# Altium integrated library Res-SMD_V2.IntLib: 2369 symbols (part 4 of 18)
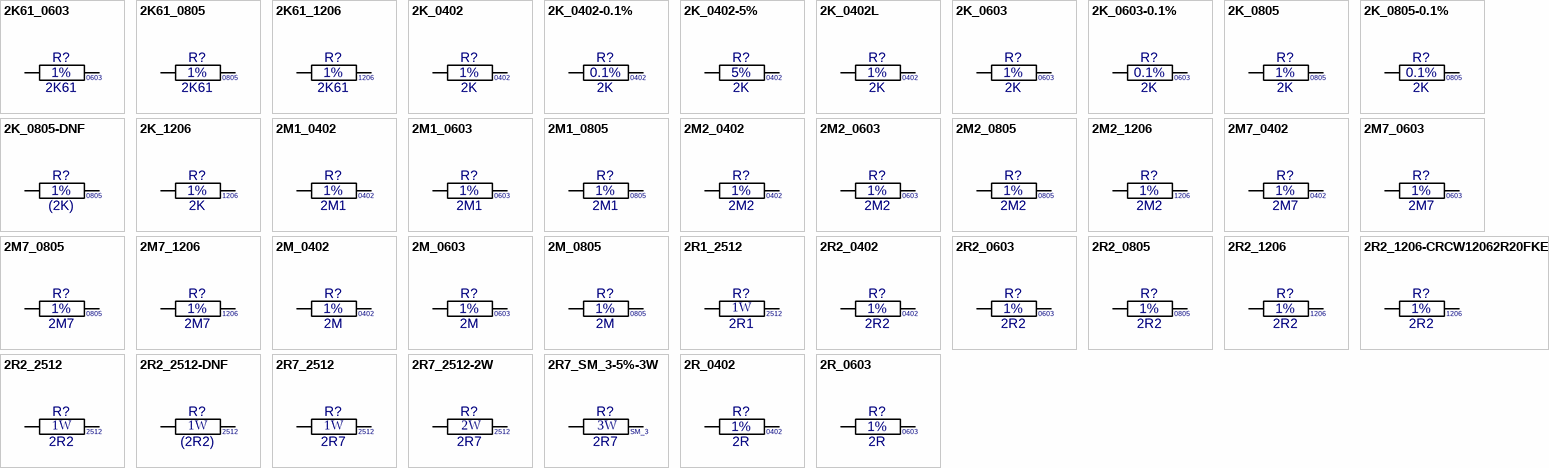
[diagram p62: symbols 2K61_0603 to 2R_0603]

## 2K61_0805
designator R?, comment value 2K61  Tol: 1%  Text1: 0805  (hidden comment: 2K61_R0805_1%)
Resistor Chip SMD; Manufacturer: Various; Part Number: 2K61 0805 1%; Watt: 125mW; Package: RESC0805X65N; EDM-PN: *; Text2: *; Reutech PN: *; SAAB PN: *; DCE Part No: *
footprint RESC0805X65N (Chip Resistor, 0805, 2-Leads, Body 2.0x1.3mm, IPC Medium Density)
pins: 1, 2

## 2K61_1206
designator R?, comment value 2K61  Tol: 1%  Text1: 1206  (hidden comment: 2K61_R1206_1%)
Resistor Chip SMD; Manufacturer: Various; Part Number: 2K61 1206 1%; Watt: 250mW; Package: RESC1206X71N; EDM-PN: *; Text2: *; Reutech PN: *; SAAB PN: *; DCE Part No: *
footprint RESC1206X71N (Chip Resistor, 1206, 2-Leads, Body 3.2x1.6mm, IPC Medium Density)
pins: 1, 2

## 2K_0402
designator R?, comment value 2K  Tol: 1%  Text1: 0402  (hidden comment: 2K_R0402_1%)
Resistor Chip SMD; Manufacturer: Various; Part Number: 2K 0402 1%; Watt: 63mW; EDM-PN: RES1457; Package: RESC0402X40N; Text2: *; Reutech PN: *; SAAB PN: *; DCE Part No: *
footprint RESC0402X40N (Chip Resistor, 0402, 2-Leads, Body 1.1x0.5mm, IPC Medium Density)
pins: 1, 2

## 2K_0402-0.1%
designator R?, comment value 2K  Tol: 0.1%  Text1: 0402  (hidden comment: 2K_R0402_0.1%)
Resistor Chip SMD; Manufacturer: Various; Part Number: 2K 0402 0.1%; Watt: 63mW; Package: RESC0402X40N; EDM-PN: *; Text2: *; Reutech PN: *; SAAB PN: *; DCE Part No: *
footprint RESC0402X40N (Chip Resistor, 0402, 2-Leads, Body 1.1x0.5mm, IPC Medium Density)
pins: 1, 2

## 2K_0402-5%
designator R?, comment value 2K  Tol: 5%  Text1: 0402  (hidden comment: 2K_R0402_5%)
Resistor Chip SMD; Manufacturer: Various; Part Number: 2K 0402 5%; Watt: 63mW; Package: RESC0402X40N; EDM-PN: *; Text2: *; Reutech PN: *; SAAB PN: *; DCE Part No: *
footprint RESC0402X40N (Chip Resistor, 0402, 2-Leads, Body 1.1x0.5mm, IPC Medium Density)
pins: 1, 2

## 2K_0402L
designator R?, comment value 2K  Tol: 1%  Text1: 0402  (hidden comment: 2K_R0402_1%)
Resistor Chip SMD; Manufacturer: Various; Part Number: 2K 0402 1%; Watt: 63mW; EDM-PN: RES1457; Package: RESC0402X40L; Text2: *; Reutech PN: *; SAAB PN: *; DCE Part No: *
footprint RESC0402X40L (Chip Resistor, 0402, 2-Leads, Body 1.1x0.5mm, IPC High Density)
pins: 1, 2

## 2K_0603
designator R?, comment value 2K  Tol: 1%  Text1: 0603  (hidden comment: 2K_R0603_1%)
Resistor Chip SMD; Manufacturer: Various; Part Number: 2K 0603 1%; Watt: 100mW; EDM-PN: RES680; Package: RESC0603X60N; Text2: *; Reutech PN: 5905-93-2001; SAAB PN: *; DCE Part No: *
footprint RESC0603X60N (Chip Resistor, 0603, 2-Leads, Body 1.6x0.8mm, IPC Medium Density)
pins: 1, 2

## 2K_0603-0.1%
designator R?, comment value 2K  Tol: 0.1%  Text1: 0603  (hidden comment: 2K_R0603_0.1%)
Resistor Chip SMD; Manufacturer: Various; Part Number: 2K 0603 0.1%; Watt: 100mW; Reutech PN: 5905-93-; Package: RESC0603X60N; EDM-PN: *; Text2: *; SAAB PN: *; DCE Part No: *
footprint RESC0603X60N (Chip Resistor, 0603, 2-Leads, Body 1.6x0.8mm, IPC Medium Density)
pins: 1, 2

## 2K_0805
designator R?, comment value 2K  Tol: 1%  Text1: 0805  (hidden comment: 2K_R0805_1%)
Resistor Chip SMD; Manufacturer: Various; Part Number: 2K 0805 1%; Watt: 125mW; EDM-PN: RES197; Package: RESC0805X65N; Text2: *; Reutech PN: *; SAAB PN: *; DCE Part No: *
footprint RESC0805X65N (Chip Resistor, 0805, 2-Leads, Body 2.0x1.3mm, IPC Medium Density)
pins: 1, 2

## 2K_0805-0.1%
designator R?, comment value 2K  Tol: 0.1%  Text1: 0805  (hidden comment: 2K_R0805_0.1%)
Resistor Chip SMD; Manufacturer: Various; Part Number: 2K 0805 0.1%; Watt: 125mW; Package: RESC0805X65N; EDM-PN: *; Text2: *; Reutech PN: *; SAAB PN: *; DCE Part No: *
footprint RESC0805X65N (Chip Resistor, 0805, 2-Leads, Body 2.0x1.3mm, IPC Medium Density)
pins: 1, 2

## 2K_0805-DNF
designator R?, comment value (2K)  Tol: 1%  Text1: 0805  (hidden comment: 2K_R0805_1%-DNF)
Resistor Chip SMD - Do not Fit; Manufacturer: Various; Part Number: DNF - 2K 0805 1%; Watt: 125mW; EDM-PN: RES197; Package: RESC0805X65N; Text2: *; Reutech PN: *; SAAB PN: *; DCE Part No: *
footprint RESC0805X65N (Chip Resistor, 0805, 2-Leads, Body 2.0x1.3mm, IPC Medium Density)
pins: 1, 2

## 2K_1206
designator R?, comment value 2K  Tol: 1%  Text1: 1206  (hidden comment: 2K_R1206_1%)
Resistor Chip SMD; Manufacturer: Various; Part Number: 2K 1206 1%; Watt: 250mW; Package: RESC1206X71N; EDM-PN: *; Text2: *; Reutech PN: 5905-97-2001; SAAB PN: *; DCE Part No: *
footprint RESC1206X71N (Chip Resistor, 1206, 2-Leads, Body 3.2x1.6mm, IPC Medium Density)
pins: 1, 2

## 2M1_0402
designator R?, comment value 2M1  Tol: 1%  Text1: 0402  (hidden comment: 2M1_R0402_1%)
Resistor Chip SMD; Manufacturer: Various; Part Number: 2M1 0402 1%; Watt: 63mW; Package: RESC0402X40N; EDM-PN: *; Text2: *; Reutech PN: *; SAAB PN: *; DCE Part No: *
footprint RESC0402X40N (Chip Resistor, 0402, 2-Leads, Body 1.1x0.5mm, IPC Medium Density)
pins: 1, 2

## 2M1_0603
designator R?, comment value 2M1  Tol: 1%  Text1: 0603  (hidden comment: 2M1_R0603_1%)
Resistor Chip SMD; Manufacturer: Various; Part Number: 2M1 0603 1%; Watt: 100mW; Package: RESC0603X60N; EDM-PN: *; Text2: *; Reutech PN: *; SAAB PN: *; DCE Part No: *
footprint RESC0603X60N (Chip Resistor, 0603, 2-Leads, Body 1.6x0.8mm, IPC Medium Density)
pins: 1, 2

## 2M1_0805
designator R?, comment value 2M1  Tol: 1%  Text1: 0805  (hidden comment: 2M1_R0805_1%)
Resistor Chip SMD; Manufacturer: Various; Part Number: 2M1 0805 1%; Watt: 125mW; Package: RESC0805X65N; EDM-PN: *; Text2: *; Reutech PN: *; SAAB PN: *; DCE Part No: *
footprint RESC0805X65N (Chip Resistor, 0805, 2-Leads, Body 2.0x1.3mm, IPC Medium Density)
pins: 1, 2

## 2M2_0402
designator R?, comment value 2M2  Tol: 1%  Text1: 0402  (hidden comment: 2M2_R0402_1%)
Resistor Chip SMD; Manufacturer: Various; Part Number: 2M2 0402 1%; Watt: 63mW; EDM-PN: RES1587; Package: RESC0402X40N; Text2: *; Reutech PN: *; SAAB PN: *; DCE Part No: *
footprint RESC0402X40N (Chip Resistor, 0402, 2-Leads, Body 1.1x0.5mm, IPC Medium Density)
pins: 1, 2

## 2M2_0603
designator R?, comment value 2M2  Tol: 1%  Text1: 0603  (hidden comment: 2M2_R0603_1%)
Resistor Chip SMD; Manufacturer: Various; Part Number: 2M2 0603 1%; Watt: 100mW; Package: RESC0603X60N; EDM-PN: *; Text2: *; Reutech PN: *; SAAB PN: *; DCE Part No: *
footprint RESC0603X60N (Chip Resistor, 0603, 2-Leads, Body 1.6x0.8mm, IPC Medium Density)
pins: 1, 2

## 2M2_0805
designator R?, comment value 2M2  Tol: 1%  Text1: 0805  (hidden comment: 2M2_R0805_1%)
Resistor Chip SMD; Manufacturer: Various; Part Number: 2M2 0805 1%; Watt: 125mW; Package: RESC0805X65N; EDM-PN: *; Text2: *; Reutech PN: *; SAAB PN: *; DCE Part No: *
footprint RESC0805X65N (Chip Resistor, 0805, 2-Leads, Body 2.0x1.3mm, IPC Medium Density)
pins: 1, 2

## 2M2_1206
designator R?, comment value 2M2  Tol: 1%  Text1: 1206  (hidden comment: 2M2_R1206_1%)
Resistor Chip SMD; Manufacturer: Various; Part Number: 2M2 1206 1%; Watt: 250mW; Package: RESC1206X71N; EDM-PN: *; Text2: *; Reutech PN: *; SAAB PN: *; DCE Part No: *
footprint RESC1206X71N (Chip Resistor, 1206, 2-Leads, Body 3.2x1.6mm, IPC Medium Density)
pins: 1, 2

## 2M7_0402
designator R?, comment value 2M7  Tol: 1%  Text1: 0402  (hidden comment: 2M7_R0402_1%)
Resistor Chip SMD; Manufacturer: Various; Part Number: 2M7 0402 1%; Watt: 63mW; EDM-PN: RES1576; Package: RESC0402X40N; Text2: *; Reutech PN: *; SAAB PN: *; DCE Part No: *
footprint RESC0402X40N (Chip Resistor, 0402, 2-Leads, Body 1.1x0.5mm, IPC Medium Density)
pins: 1, 2

## 2M7_0603
designator R?, comment value 2M7  Tol: 1%  Text1: 0603  (hidden comment: 2M7_R0603_1%)
Resistor Chip SMD; Manufacturer: Various; Part Number: 2M7 0603 1%; Watt: 100mW; Package: RESC0603X60N; EDM-PN: *; Text2: *; Reutech PN: *; SAAB PN: *; DCE Part No: *
footprint RESC0603X60N (Chip Resistor, 0603, 2-Leads, Body 1.6x0.8mm, IPC Medium Density)
pins: 1, 2

## 2M7_0805
designator R?, comment value 2M7  Tol: 1%  Text1: 0805  (hidden comment: 2M7_R0805_1%)
Resistor Chip SMD; Manufacturer: Various; Part Number: 2M7 0805 1%; Watt: 125mW; EDM-PN: RES984; Package: RESC0805X65N; Text2: *; Reutech PN: *; SAAB PN: *; DCE Part No: *
footprint RESC0805X65N (Chip Resistor, 0805, 2-Leads, Body 2.0x1.3mm, IPC Medium Density)
pins: 1, 2

## 2M7_1206
designator R?, comment value 2M7  Tol: 1%  Text1: 1206  (hidden comment: 2M7_R1206_1%)
Resistor Chip SMD; Manufacturer: Various; Part Number: 2M7 1206 1%; Watt: 250mW; Package: RESC1206X71N; EDM-PN: *; Text2: *; Reutech PN: *; SAAB PN: *; DCE Part No: *
footprint RESC1206X71N (Chip Resistor, 1206, 2-Leads, Body 3.2x1.6mm, IPC Medium Density)
pins: 1, 2

## 2M_0402
designator R?, comment value 2M  Tol: 1%  Text1: 0402  (hidden comment: 2M_R0402_1%)
Resistor Chip SMD; Manufacturer: Various; Part Number: 2M 0402 1%; Watt: 63mW; Package: RESC0402X40N; EDM-PN: *; Text2: *; Reutech PN: *; SAAB PN: *; DCE Part No: *
footprint RESC0402X40N (Chip Resistor, 0402, 2-Leads, Body 1.1x0.5mm, IPC Medium Density)
pins: 1, 2

## 2M_0603
designator R?, comment value 2M  Tol: 1%  Text1: 0603  (hidden comment: 2M_R0603_1%)
Resistor Chip SMD; Manufacturer: Various; Part Number: 2M 0603 1%; Watt: 100mW; Package: RESC0603X60N; EDM-PN: *; Text2: *; Reutech PN: *; SAAB PN: *; DCE Part No: *
footprint RESC0603X60N (Chip Resistor, 0603, 2-Leads, Body 1.6x0.8mm, IPC Medium Density)
pins: 1, 2

## 2M_0805
designator R?, comment value 2M  Tol: 1%  Text1: 0805  (hidden comment: 2M_R0805_1%)
Resistor Chip SMD; Manufacturer: Various; Part Number: 2M 0805 1%; Watt: 125mW; Package: RESC0805X65N; EDM-PN: *; Text2: *; Reutech PN: *; SAAB PN: *; DCE Part No: *
footprint RESC0805X65N (Chip Resistor, 0805, 2-Leads, Body 2.0x1.3mm, IPC Medium Density)
pins: 1, 2

## 2R1_2512
designator R?, comment value 2R1  Watt: 1W  Text1: 2512  (hidden comment: 2R1_R2512_1%)
Resistor Chip SMD; Manufacturer: Various; Part Number: 2R1 2512 1%; Tol: 1%; Package: RESC2512X71N; EDM-PN: *; Text2: *; Reutech PN: *; SAAB PN: *; DCE Part No: *
footprint RESC2512X71N (Chip Resistor, 2512, 2-Leads, Body 6.3x3.2mm, IPC Medium Density)
pins: 1, 2

## 2R2_0402
designator R?, comment value 2R2  Tol: 1%  Text1: 0402  (hidden comment: 2R2_R0402_1%)
Resistor Chip SMD; Manufacturer: Various; Part Number: 2R2 0402 1%; Watt: 63mW; Package: RESC0402X40N; EDM-PN: *; Text2: *; Reutech PN: *; SAAB PN: *; DCE Part No: *
footprint RESC0402X40N (Chip Resistor, 0402, 2-Leads, Body 1.1x0.5mm, IPC Medium Density)
pins: 1, 2

## 2R2_0603
designator R?, comment value 2R2  Tol: 1%  Text1: 0603  (hidden comment: 2R2_R0603_1%)
Resistor Chip SMD; Manufacturer: Various; Part Number: 2R2 0603 1%; Watt: 100mW; EDM-PN: RES509; Package: RESC0603X60N; Text2: *; Reutech PN: *; SAAB PN: *; DCE Part No: *
footprint RESC0603X60N (Chip Resistor, 0603, 2-Leads, Body 1.6x0.8mm, IPC Medium Density)
pins: 1, 2

## 2R2_0805
designator R?, comment value 2R2  Tol: 1%  Text1: 0805  (hidden comment: 2R2_R0805_1%)
Resistor Chip SMD; Manufacturer: Various; Part Number: 2R2 0805 1%; Watt: 125mW; Package: RESC0805X65N; EDM-PN: *; Text2: *; Reutech PN: *; SAAB PN: *; DCE Part No: *
footprint RESC0805X65N (Chip Resistor, 0805, 2-Leads, Body 2.0x1.3mm, IPC Medium Density)
pins: 1, 2

## 2R2_1206
designator R?, comment value 2R2  Tol: 1%  Text1: 1206  (hidden comment: 2R2_R1206_1%)
Resistor Chip SMD; Manufacturer: Various; Part Number: 2R2 1206 1%; Watt: 250mW; Package: RESC1206X71N; EDM-PN: *; Text2: *; Reutech PN: *; SAAB PN: *; DCE Part No: *
footprint RESC1206X71N (Chip Resistor, 1206, 2-Leads, Body 3.2x1.6mm, IPC Medium Density)
pins: 1, 2

## 2R2_1206-CRCW12062R20FKEA
designator R?, comment value 2R2  Tol: 1%  Text1: 1206  (hidden comment: CRCW12062R20FKEA)
Resistor Chip SMD; Manufacturer: Vishay; Watt: 250mW; Part Number: CRCW12062R20FKEA; Package: RESC1206X71N; EDM-PN: *; Text2: *; Reutech PN: *; SAAB PN: *; DCE Part No: *
footprint RESC1206X71N (Chip Resistor, 1206, 2-Leads, Body 3.2x1.6mm, IPC Medium Density)
pins: 1, 2

## 2R2_2512
designator R?, comment value 2R2  Watt: 1W  Text1: 2512  (hidden comment: 2R2_R2512_1%)
Resistor Chip SMD; Manufacturer: Various; Part Number: 2R2 2512 1%; Tol: 1%; Package: RESC2512X71N; EDM-PN: *; Text2: *; Reutech PN: *; SAAB PN: *; DCE Part No: *
footprint RESC2512X71N (Chip Resistor, 2512, 2-Leads, Body 6.3x3.2mm, IPC Medium Density)
pins: 1, 2

## 2R2_2512-DNF
designator R?, comment value (2R2)  Watt: 1W  Text1: 2512  (hidden comment: 2R2_R2512_1%)
Resistor Chip SMD - Do not Fit; Manufacturer: Various; Part Number: DNF - 2R2 2512 1%; Tol: 1%; Package: RESC2512X71N; EDM-PN: *; Text2: *; Reutech PN: *; SAAB PN: *; DCE Part No: *
footprint RESC2512X71N (Chip Resistor, 2512, 2-Leads, Body 6.3x3.2mm, IPC Medium Density)
pins: 1, 2

## 2R7_2512
designator R?, comment value 2R7  Watt: 1W  Text1: 2512  (hidden comment: 2R7_R2512_1%)
Resistor Chip SMD; Manufacturer: Various; Part Number: 2R7 2512 1%; Tol: 1%; Reutech PN: 5905-CR-0049; Package: RESC2512X71N; EDM-PN: *; Text2: *; SAAB PN: *; DCE Part No: *
footprint RESC2512X71N (Chip Resistor, 2512, 2-Leads, Body 6.3x3.2mm, IPC Medium Density)
pins: 1, 2

## 2R7_2512-2W
designator R?, comment value 2R7  Watt: 2W  Text1: 2512  (hidden comment: 2R7_R2512_1%-2W)
Resistor Chip SMD Thick Film; Manufacturer: Various; Part Number: 2R7 2512 1% 2Watt; Tol: 1%; Package: RESC2512X71N; EDM-PN: *; Text2: *; Reutech PN: *; SAAB PN: *; DCE Part No: *
footprint RESC2512X71N (Chip Resistor, 2512, 2-Leads, Body 6.3x3.2mm, IPC Medium Density)
pins: 1, 2

## 2R7_SM_3-5%-3W
designator R?, comment value 2R7  Watt: 3W  Text1: SM_3  (hidden comment: 2R7_SM_3_5%-3W)
Resistor Moulded Power Wirewound; Manufacturer: TE Connectivity; Part Number: SMW32R7JT; EDM-PN: RES1402; Tol: 5%; Package: RES-SM_3; Text2: *; Reutech PN: *; SAAB PN: *; DCE Part No: *
footprint RES-SM_3 (RES-SM_3 10.5x5.5mm)
pins: 1, 2

## 2R_0402
designator R?, comment value 2R  Tol: 1%  Text1: 0402  (hidden comment: 2R_R0402_1%)
Resistor Chip SMD; Manufacturer: Various; Part Number: 2R 0402 1%; Watt: 63mW; Package: RESC0402X40N; EDM-PN: *; Text2: *; Reutech PN: *; SAAB PN: *; DCE Part No: *
footprint RESC0402X40N (Chip Resistor, 0402, 2-Leads, Body 1.1x0.5mm, IPC Medium Density)
pins: 1, 2

## 2R_0603
designator R?, comment value 2R  Tol: 1%  Text1: 0603  (hidden comment: 2R_R0603_1%)
Resistor Chip SMD; Manufacturer: Various; Part Number: 2R 0603 1%; Watt: 100mW; Package: RESC0603X60N; EDM-PN: *; Text2: *; Reutech PN: *; SAAB PN: *; DCE Part No: *
footprint RESC0603X60N (Chip Resistor, 0603, 2-Leads, Body 1.6x0.8mm, IPC Medium Density)
pins: 1, 2

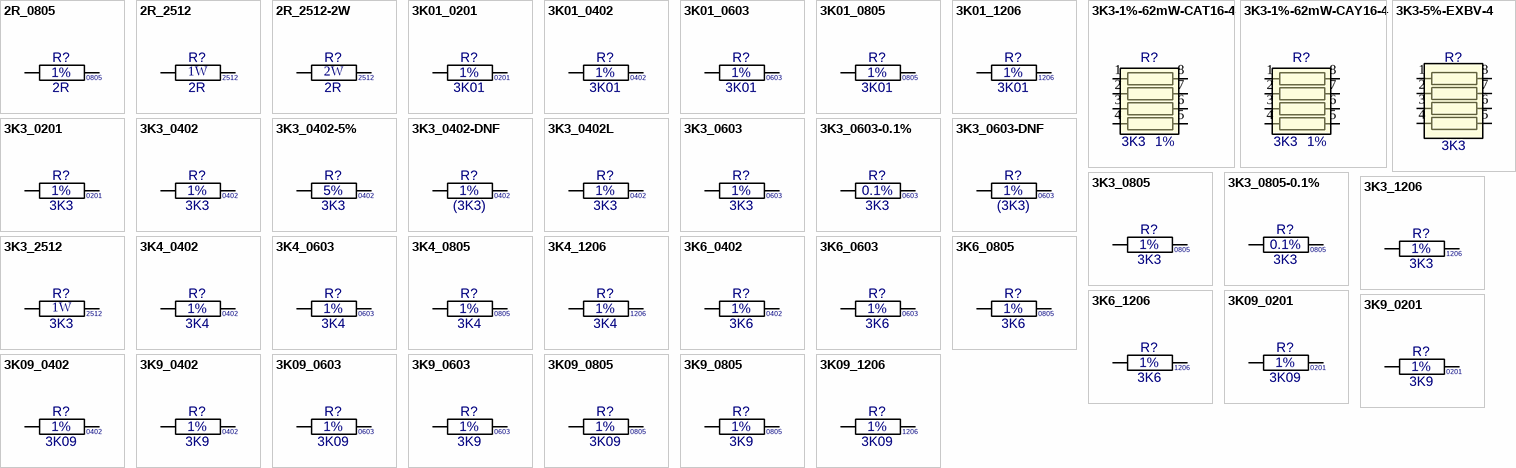
[diagram p11: symbols 2R_0805 to 3K09_1206]

## 2R_0805
designator R?, comment value 2R  Tol: 1%  Text1: 0805  (hidden comment: 2R_R0805_1%)
Resistor Chip SMD; Manufacturer: Various; Part Number: 2R 0805 1%; Watt: 125mW; Package: RESC0805X65N; EDM-PN: *; Text2: *; Reutech PN: *; SAAB PN: *; DCE Part No: *
footprint RESC0805X65N (Chip Resistor, 0805, 2-Leads, Body 2.0x1.3mm, IPC Medium Density)
pins: 1, 2

## 2R_2512
designator R?, comment value 2R  Watt: 1W  Text1: 2512  (hidden comment: 2R_R2512_1%)
Resistor Chip SMD; Manufacturer: Various; Part Number: 2R 2512 1%; Tol: 1%; Package: RESC2512X71N; EDM-PN: *; Text2: *; Reutech PN: *; SAAB PN: *; DCE Part No: *
footprint RESC2512X71N (Chip Resistor, 2512, 2-Leads, Body 6.3x3.2mm, IPC Medium Density)
pins: 1, 2

## 2R_2512-2W
designator R?, comment value 2R  Watt: 2W  Text1: 2512  (hidden comment: 2R_R2512_1% 2W)
Resistor Chip SMD; Manufacturer: Various; Part Number: 2R 2512 1% 2W; Tol: 1%; Package: RESC2512X71N; EDM-PN: *; Text2: *; Reutech PN: *; SAAB PN: *; DCE Part No: *
footprint RESC2512X71N (Chip Resistor, 2512, 2-Leads, Body 6.3x3.2mm, IPC Medium Density)
pins: 1, 2

## 3K01_0201
designator R?, comment value 3K01  Tol: 1%  Text1: 0201  (hidden comment: 3K01_R0201_1%)
Resistor Chip SMD; Manufacturer: Various; Part Number: 3K01 0201 1%; Watt: 31mW; Package: RESC0201X33N; EDM-PN: *; Text2: *; Reutech PN: *; SAAB PN: *; DCE Part No: *
footprint RESC0201X33N (Chip Resistor, 0201, 2-Leads, Body 0.6x0.3mm, IPC Medium Density)
pins: 1, 2

## 3K01_0402
designator R?, comment value 3K01  Tol: 1%  Text1: 0402  (hidden comment: 3K01_R0402_1%)
Resistor Chip SMD; Manufacturer: Various; Part Number: 3K01 0402 1%; Watt: 63mW; Package: RESC0402X40N; EDM-PN: *; Text2: *; Reutech PN: *; SAAB PN: *; DCE Part No: *
footprint RESC0402X40N (Chip Resistor, 0402, 2-Leads, Body 1.1x0.5mm, IPC Medium Density)
pins: 1, 2

## 3K01_0603
designator R?, comment value 3K01  Tol: 1%  Text1: 0603  (hidden comment: 3K01_R0603_1%)
Resistor Chip SMD; Manufacturer: Various; Part Number: 3K01 0603 1%; Watt: 100mW; Package: RESC0603X60N; EDM-PN: *; Text2: *; Reutech PN: *; SAAB PN: *; DCE Part No: *
footprint RESC0603X60N (Chip Resistor, 0603, 2-Leads, Body 1.6x0.8mm, IPC Medium Density)
pins: 1, 2

## 3K01_0805
designator R?, comment value 3K01  Tol: 1%  Text1: 0805  (hidden comment: 3K01_R0805_1%)
Resistor Chip SMD; Manufacturer: Various; Part Number: 3K01 0805 1%; Watt: 125mW; Package: RESC0805X65N; EDM-PN: *; Text2: *; Reutech PN: *; SAAB PN: *; DCE Part No: *
footprint RESC0805X65N (Chip Resistor, 0805, 2-Leads, Body 2.0x1.3mm, IPC Medium Density)
pins: 1, 2

## 3K01_1206
designator R?, comment value 3K01  Tol: 1%  Text1: 1206  (hidden comment: 3K01_R1206_1%)
Resistor Chip SMD; Manufacturer: Various; Part Number: 3K01 1206 1%; Watt: 250mW; Package: RESC1206X71N; EDM-PN: *; Text2: *; Reutech PN: *; SAAB PN: *; DCE Part No: *
footprint RESC1206X71N (Chip Resistor, 1206, 2-Leads, Body 3.2x1.6mm, IPC Medium Density)
pins: 1, 2

## 3K3-1%-62mW-CAT16-4
designator R?  value 3K3  Tol: 1%  (hidden comment: 3K3-1%-62mW-CAT16-4)
Resistor Chip Array; Manufacturer: Bourns; Part Number: CAT16-3301F4LF; Watt: 62mW; Package: CAT16-4; EDM-PN: *; Text2: *; Text1: *; Reutech PN: *; SAAB PN: *; DCE Part No: *
footprint CAT16-4 (Res Network 1.6x3.2mm)
pins: 1, 2, 3, 4, 5, 6, 7, 8

## 3K3-1%-62mW-CAY16-4
designator R?  value 3K3  Tol: 1%  (hidden comment: 3K3-1%-62mW-CAY16-4)
Resistor Chip Array; Manufacturer: Bourns; Part Number: CAY16-3301F4LF; Watt: 62mW; Package: CAY16-4; EDM-PN: *; Text2: *; Text1: *; Reutech PN: *; SAAB PN: *; DCE Part No: *
footprint CAY16-4 (Res Network 1.6x3.2mm)
pins: 1, 2, 3, 4, 5, 6, 7, 8

## 3K3-5%-EXBV-4
designator R?  value 3K3  (hidden comment: 3K3-5%-EXBV-4)
Resistor Chip Array; Manufacturer: Panasonic; Part Number: EXBV8V332J; Tol: 5%; Package: EXBV8V; EDM-PN: *; Text2: *; Text1: *; Watt: *; Reutech PN: *; SAAB PN: *; DCE Part No: *
footprint EXBV8V (Res Network 1.6x3.2mm)
pins: 1, 2, 3, 4, 5, 6, 7, 8

## 3K3_0201
designator R?, comment value 3K3  Tol: 1%  Text1: 0201  (hidden comment: 3K3_R0201_1%)
Resistor Chip SMD; Manufacturer: Various; Part Number: 3K3 0201 1%; Watt: 31mW; Package: RESC0201X33N; EDM-PN: *; Text2: *; Reutech PN: *; SAAB PN: *; DCE Part No: *
footprint RESC0201X33N (Chip Resistor, 0201, 2-Leads, Body 0.6x0.3mm, IPC Medium Density)
pins: 1, 2

## 3K3_0402
designator R?, comment value 3K3  Tol: 1%  Text1: 0402  (hidden comment: 3K3_R0402_1%)
Resistor Chip SMD; Manufacturer: Various; Part Number: 3K3 0402 1%; DCE Part No: 7151; Watt: 63mW; EDM-PN: RES1137; SAAB PN: 1ACF00986AEA; Package: RESC0402X40N; Text2: *; Reutech PN: *
footprint RESC0402X40N (Chip Resistor, 0402, 2-Leads, Body 1.1x0.5mm, IPC Medium Density)
pins: 1, 2

## 3K3_0402-5%
designator R?, comment value 3K3  Tol: 5%  Text1: 0402  (hidden comment: 3K3_R0402_5%)
Resistor Chip SMD; Manufacturer: Various; Part Number: 3K3 0402 5%; Watt: 63mW; Package: RESC0402X40N; EDM-PN: *; Text2: *; Reutech PN: *; SAAB PN: *; DCE Part No: *
footprint RESC0402X40N (Chip Resistor, 0402, 2-Leads, Body 1.1x0.5mm, IPC Medium Density)
pins: 1, 2

## 3K3_0402-DNF
designator R?, comment value (3K3)  Tol: 1%  Text1: 0402  (hidden comment: 3K3_R0402_1%-DNF)
Resistor Chip SMD - Do not Fit; Manufacturer: Various; Part Number: DNF - 3K3 0402 1%; Watt: 63mW; Package: RESC0402X40N; EDM-PN: *; Text2: *; Reutech PN: *; SAAB PN: *; DCE Part No: *
footprint RESC0402X40N (Chip Resistor, 0402, 2-Leads, Body 1.1x0.5mm, IPC Medium Density)
pins: 1, 2

## 3K3_0402L
designator R?, comment value 3K3  Tol: 1%  Text1: 0402  (hidden comment: 3K3_R0402_1%)
Resistor Chip SMD; Manufacturer: Various; Part Number: 3K3 0402 1%; DCE Part No: 7151; Watt: 63mW; EDM-PN: RES1137; SAAB PN: 1ACF00986AEA; Package: RESC0402X40L; Text2: *; Reutech PN: *
footprint RESC0402X40L (Chip Resistor, 0402, 2-Leads, Body 1.1x0.5mm, IPC High Density)
pins: 1, 2

## 3K3_0603
designator R?, comment value 3K3  Tol: 1%  Text1: 0603  (hidden comment: 3K3_R0603_1%)
Resistor Chip SMD; Manufacturer: Various; Part Number: 3K3 0603 1%; Watt: 100mW; EDM-PN: RES867; Package: RESC0603X60N; Text2: *; Reutech PN: 5905-93-3301; SAAB PN: *; DCE Part No: *
footprint RESC0603X60N (Chip Resistor, 0603, 2-Leads, Body 1.6x0.8mm, IPC Medium Density)
pins: 1, 2

## 3K3_0603-0.1%
designator R?, comment value 3K3  Tol: 0.1%  Text1: 0603  (hidden comment: 3K3_R0603_0.1%)
Resistor Chip SMD; Manufacturer: Various; Part Number: 3K3 0603 0.1%; Watt: 100mW; Reutech PN: 5905-93-; Package: RESC0603X60N; EDM-PN: *; Text2: *; SAAB PN: *; DCE Part No: *
footprint RESC0603X60N (Chip Resistor, 0603, 2-Leads, Body 1.6x0.8mm, IPC Medium Density)
pins: 1, 2

## 3K3_0603-DNF
designator R?, comment value (3K3)  Tol: 1%  Text1: 0603  (hidden comment: 3K3_R0603_1%-DNF)
Resistor Chip SMD - Do not Fit; Manufacturer: Various; Part Number: DNF - 3K3 0603 1%; Watt: 100mW; EDM-PN: RES867; Package: RESC0603X60N; Text2: *; Reutech PN: 5905-93-3301; SAAB PN: *; DCE Part No: *
footprint RESC0603X60N (Chip Resistor, 0603, 2-Leads, Body 1.6x0.8mm, IPC Medium Density)
pins: 1, 2

## 3K3_0805
designator R?, comment value 3K3  Tol: 1%  Text1: 0805  (hidden comment: 3K3_R0805_1%)
Resistor Chip SMD; Manufacturer: Various; Part Number: 3K3 0805 1%; Watt: 125mW; EDM-PN: RES65; SAAB PN: 1ACF00194AEA; Package: RESC0805X65N; Text2: *; Reutech PN: *; DCE Part No: *
footprint RESC0805X65N (Chip Resistor, 0805, 2-Leads, Body 2.0x1.3mm, IPC Medium Density)
pins: 1, 2

## 3K3_0805-0.1%
designator R?, comment value 3K3  Tol: 0.1%  Text1: 0805  (hidden comment: 3K3_R0805_0.1%)
Resistor Chip SMD; Manufacturer: Various; Part Number: 3K3 0805 0.1%; Watt: 125mW; Package: RESC0805X65N; EDM-PN: *; Text2: *; Reutech PN: *; SAAB PN: *; DCE Part No: *
footprint RESC0805X65N (Chip Resistor, 0805, 2-Leads, Body 2.0x1.3mm, IPC Medium Density)
pins: 1, 2

## 3K3_1206
designator R?, comment value 3K3  Tol: 1%  Text1: 1206  (hidden comment: 3K3_R1206_1%)
Resistor Chip SMD; Manufacturer: Various; Part Number: 3K3 1206 1%; Watt: 250mW; Reutech PN: 5905-CR-8033; Package: RESC1206X71N; EDM-PN: *; Text2: *; SAAB PN: *; DCE Part No: *
footprint RESC1206X71N (Chip Resistor, 1206, 2-Leads, Body 3.2x1.6mm, IPC Medium Density)
pins: 1, 2

## 3K3_2512
designator R?, comment value 3K3  Watt: 1W  Text1: 2512  (hidden comment: 3K3_R2512_1%)
Resistor Chip SMD; Manufacturer: Various; Part Number: 3K3 2512 1%; Tol: 1%; Reutech PN: 5905-CR-0048; Package: RESC2512X71N; EDM-PN: *; Text2: *; SAAB PN: *; DCE Part No: *
footprint RESC2512X71N (Chip Resistor, 2512, 2-Leads, Body 6.3x3.2mm, IPC Medium Density)
pins: 1, 2

## 3K4_0402
designator R?, comment value 3K4  Tol: 1%  Text1: 0402  (hidden comment: 3K4_R0402_1%)
Resistor Chip SMD; Manufacturer: Various; Part Number: 3K4 0402 1%; Watt: 63mW; Package: RESC0402X40N; EDM-PN: *; Text2: *; Reutech PN: *; SAAB PN: *; DCE Part No: *
footprint RESC0402X40N (Chip Resistor, 0402, 2-Leads, Body 1.1x0.5mm, IPC Medium Density)
pins: 1, 2

## 3K4_0603
designator R?, comment value 3K4  Tol: 1%  Text1: 0603  (hidden comment: 3K4_R0603_1%)
Resistor Chip SMD; Manufacturer: Various; Part Number: 3K4 0603 1%; Watt: 100mW; Package: RESC0603X60N; EDM-PN: *; Text2: *; Reutech PN: *; SAAB PN: *; DCE Part No: *
footprint RESC0603X60N (Chip Resistor, 0603, 2-Leads, Body 1.6x0.8mm, IPC Medium Density)
pins: 1, 2

## 3K4_0805
designator R?, comment value 3K4  Tol: 1%  Text1: 0805  (hidden comment: 3K4_R0805_1%)
Resistor Chip SMD; Manufacturer: Various; Part Number: 3K4 0805 1%; Watt: 125mW; Package: RESC0805X65N; EDM-PN: *; Text2: *; Reutech PN: *; SAAB PN: *; DCE Part No: *
footprint RESC0805X65N (Chip Resistor, 0805, 2-Leads, Body 2.0x1.3mm, IPC Medium Density)
pins: 1, 2

## 3K4_1206
designator R?, comment value 3K4  Tol: 1%  Text1: 1206  (hidden comment: 3K4_R1206_1%)
Resistor Chip SMD; Manufacturer: Various; Part Number: 3K4 1206 1%; Watt: 250mW; Package: RESC1206X71N; EDM-PN: *; Text2: *; Reutech PN: *; SAAB PN: *; DCE Part No: *
footprint RESC1206X71N (Chip Resistor, 1206, 2-Leads, Body 3.2x1.6mm, IPC Medium Density)
pins: 1, 2

## 3K6_0402
designator R?, comment value 3K6  Tol: 1%  Text1: 0402  (hidden comment: 3K6_R0402_1%)
Resistor Chip SMD; Manufacturer: Various; Part Number: 3K6 0402 1%; Watt: 63mW; Package: RESC0402X40N; EDM-PN: *; Text2: *; Reutech PN: *; SAAB PN: *; DCE Part No: *
footprint RESC0402X40N (Chip Resistor, 0402, 2-Leads, Body 1.1x0.5mm, IPC Medium Density)
pins: 1, 2

## 3K6_0603
designator R?, comment value 3K6  Tol: 1%  Text1: 0603  (hidden comment: 3K6_R0603_1%)
Resistor Chip SMD; Manufacturer: Various; Part Number: 3K6 0603 1%; Watt: 100mW; EDM-PN: RES496; Package: RESC0603X60N; Text2: *; Reutech PN: *; SAAB PN: *; DCE Part No: *
footprint RESC0603X60N (Chip Resistor, 0603, 2-Leads, Body 1.6x0.8mm, IPC Medium Density)
pins: 1, 2

## 3K6_0805
designator R?, comment value 3K6  Tol: 1%  Text1: 0805  (hidden comment: 3K6_R0805_1%)
Resistor Chip SMD; Manufacturer: Various; Part Number: 3K6 0805 1%; Watt: 125mW; Package: RESC0805X65N; EDM-PN: *; Text2: *; Reutech PN: *; SAAB PN: *; DCE Part No: *
footprint RESC0805X65N (Chip Resistor, 0805, 2-Leads, Body 2.0x1.3mm, IPC Medium Density)
pins: 1, 2

## 3K6_1206
designator R?, comment value 3K6  Tol: 1%  Text1: 1206  (hidden comment: 3K6_R1206_1%)
Resistor Chip SMD; Manufacturer: Various; Part Number: 3K6 1206 1%; Watt: 250mW; Package: RESC1206X71N; EDM-PN: *; Text2: *; Reutech PN: *; SAAB PN: *; DCE Part No: *
footprint RESC1206X71N (Chip Resistor, 1206, 2-Leads, Body 3.2x1.6mm, IPC Medium Density)
pins: 1, 2

## 3K09_0201
designator R?, comment value 3K09  Tol: 1%  Text1: 0201  (hidden comment: 3K09_R0201_1%)
Resistor Chip SMD; Manufacturer: Various; Part Number: 3K09 0201 1%; Watt: 31mW; Package: RESC0201X33N; EDM-PN: *; Text2: *; Reutech PN: *; SAAB PN: *; DCE Part No: *
footprint RESC0201X33N (Chip Resistor, 0201, 2-Leads, Body 0.6x0.3mm, IPC Medium Density)
pins: 1, 2

## 3K9_0201
designator R?, comment value 3K9  Tol: 1%  Text1: 0201  (hidden comment: 3K9_R0201_1%)
Resistor Chip SMD; Manufacturer: Various; Part Number: 3K9 0201 1%; Watt: 31mW; Package: RESC0201X33N; EDM-PN: *; Text2: *; Reutech PN: *; SAAB PN: *; DCE Part No: *
footprint RESC0201X33N (Chip Resistor, 0201, 2-Leads, Body 0.6x0.3mm, IPC Medium Density)
pins: 1, 2

## 3K09_0402
designator R?, comment value 3K09  Tol: 1%  Text1: 0402  (hidden comment: 3K09_R0402_1%)
Resistor Chip SMD; Manufacturer: Various; Part Number: 3K09 0402 1%; Watt: 63mW; Package: RESC0402X40N; EDM-PN: *; Text2: *; Reutech PN: *; SAAB PN: *; DCE Part No: *
footprint RESC0402X40N (Chip Resistor, 0402, 2-Leads, Body 1.1x0.5mm, IPC Medium Density)
pins: 1, 2

## 3K9_0402
designator R?, comment value 3K9  Tol: 1%  Text1: 0402  (hidden comment: 3K9_R0402_1%)
Resistor Chip SMD; Manufacturer: Various; Part Number: 3K9 0402 1%; Watt: 63mW; Package: RESC0402X40N; EDM-PN: *; Text2: *; Reutech PN: *; SAAB PN: *; DCE Part No: *
footprint RESC0402X40N (Chip Resistor, 0402, 2-Leads, Body 1.1x0.5mm, IPC Medium Density)
pins: 1, 2

## 3K09_0603
designator R?, comment value 3K09  Tol: 1%  Text1: 0603  (hidden comment: 3K09_R0603_1%)
Resistor Chip SMD; Manufacturer: Various; Part Number: 3K09 0603 1%; Watt: 100mW; Package: RESC0603X60N; EDM-PN: *; Text2: *; Reutech PN: *; SAAB PN: *; DCE Part No: *
footprint RESC0603X60N (Chip Resistor, 0603, 2-Leads, Body 1.6x0.8mm, IPC Medium Density)
pins: 1, 2

## 3K9_0603
designator R?, comment value 3K9  Tol: 1%  Text1: 0603  (hidden comment: 3K9_R0603_1%)
Resistor Chip SMD; Manufacturer: Various; Part Number: 3K9 0603 1%; Watt: 100mW; Package: RESC0603X60N; EDM-PN: *; Text2: *; Reutech PN: *; SAAB PN: *; DCE Part No: *
footprint RESC0603X60N (Chip Resistor, 0603, 2-Leads, Body 1.6x0.8mm, IPC Medium Density)
pins: 1, 2

## 3K09_0805
designator R?, comment value 3K09  Tol: 1%  Text1: 0805  (hidden comment: 3K09_R0805_1%)
Resistor Chip SMD; Manufacturer: Various; Part Number: 3K09 0805 1%; Watt: 125mW; Package: RESC0805X65N; EDM-PN: *; Text2: *; Reutech PN: *; SAAB PN: *; DCE Part No: *
footprint RESC0805X65N (Chip Resistor, 0805, 2-Leads, Body 2.0x1.3mm, IPC Medium Density)
pins: 1, 2

## 3K9_0805
designator R?, comment value 3K9  Tol: 1%  Text1: 0805  (hidden comment: 3K9_R0805_1%)
Resistor Chip SMD; Manufacturer: Various; Part Number: 3K9 0805 1%; Watt: 125mW; EDM-PN: RES280; SAAB PN: 1ACF00195AEA; Package: RESC0805X65N; Text2: *; Reutech PN: *; DCE Part No: *
footprint RESC0805X65N (Chip Resistor, 0805, 2-Leads, Body 2.0x1.3mm, IPC Medium Density)
pins: 1, 2

## 3K09_1206
designator R?, comment value 3K09  Tol: 1%  Text1: 1206  (hidden comment: 3K09_R1206_1%)
Resistor Chip SMD; Manufacturer: Various; Part Number: 3K09 1206 1%; Watt: 250mW; Package: RESC1206X71N; EDM-PN: *; Text2: *; Reutech PN: *; SAAB PN: *; DCE Part No: *
footprint RESC1206X71N (Chip Resistor, 1206, 2-Leads, Body 3.2x1.6mm, IPC Medium Density)
pins: 1, 2

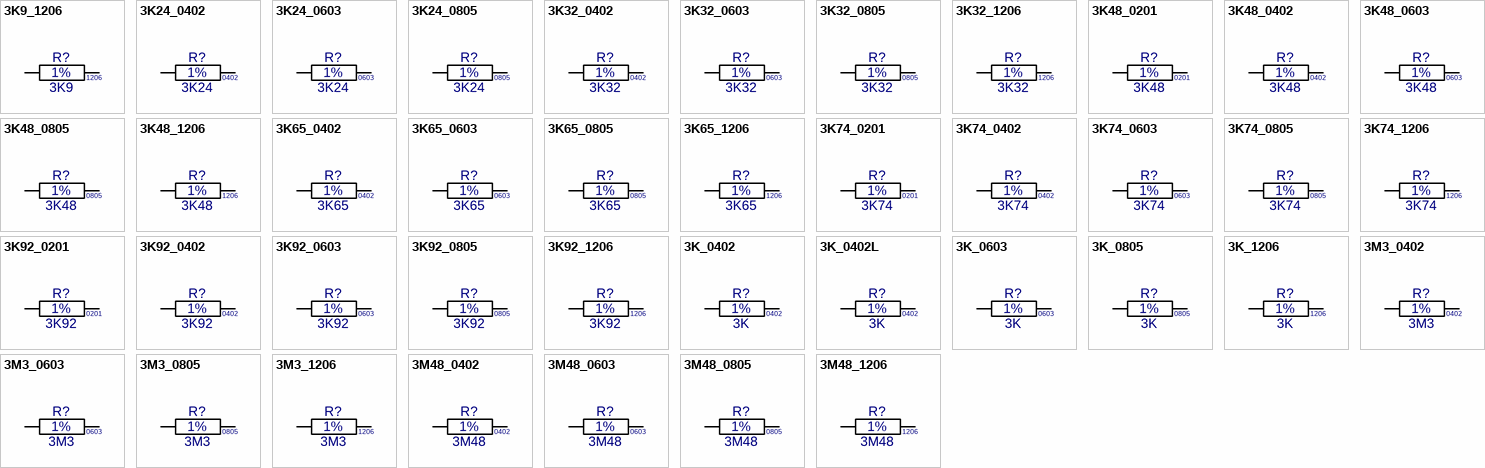
[diagram p12: symbols 3K9_1206 to 3M48_1206]

## 3K9_1206
designator R?, comment value 3K9  Tol: 1%  Text1: 1206  (hidden comment: 3K9_R1206_1%)
Resistor Chip SMD; Manufacturer: Various; Part Number: 3K9 1206 1%; Watt: 250mW; Package: RESC1206X71N; EDM-PN: *; Text2: *; Reutech PN: *; SAAB PN: *; DCE Part No: *
footprint RESC1206X71N (Chip Resistor, 1206, 2-Leads, Body 3.2x1.6mm, IPC Medium Density)
pins: 1, 2

## 3K24_0402
designator R?, comment value 3K24  Tol: 1%  Text1: 0402  (hidden comment: 3K24_R0402_1%)
Resistor Chip SMD; Manufacturer: Various; Part Number: 3K24 0402 1%; Watt: 63mW; Package: RESC0402X40N; EDM-PN: *; Text2: *; Reutech PN: *; SAAB PN: *; DCE Part No: *
footprint RESC0402X40N (Chip Resistor, 0402, 2-Leads, Body 1.1x0.5mm, IPC Medium Density)
pins: 1, 2

## 3K24_0603
designator R?, comment value 3K24  Tol: 1%  Text1: 0603  (hidden comment: 3K24_R0603_1%)
Resistor Chip SMD; Manufacturer: Various; Part Number: 3K24 0603 1%; Watt: 100mW; Package: RESC0603X60N; EDM-PN: *; Text2: *; Reutech PN: *; SAAB PN: *; DCE Part No: *
footprint RESC0603X60N (Chip Resistor, 0603, 2-Leads, Body 1.6x0.8mm, IPC Medium Density)
pins: 1, 2

## 3K24_0805
designator R?, comment value 3K24  Tol: 1%  Text1: 0805  (hidden comment: 3K24_R0805_1%)
Resistor Chip SMD; Manufacturer: Various; Part Number: 3K24 0805 1%; Watt: 125mW; Package: RESC0805X65N; EDM-PN: *; Text2: *; Reutech PN: *; SAAB PN: *; DCE Part No: *
footprint RESC0805X65N (Chip Resistor, 0805, 2-Leads, Body 2.0x1.3mm, IPC Medium Density)
pins: 1, 2

## 3K32_0402
designator R?, comment value 3K32  Tol: 1%  Text1: 0402  (hidden comment: 3K32_R0402_1%)
Resistor Chip SMD; Manufacturer: Various; Part Number: 3K32 0402 1%; Watt: 63mW; Package: RESC0402X40N; EDM-PN: *; Text2: *; Reutech PN: *; SAAB PN: *; DCE Part No: *
footprint RESC0402X40N (Chip Resistor, 0402, 2-Leads, Body 1.1x0.5mm, IPC Medium Density)
pins: 1, 2

## 3K32_0603
designator R?, comment value 3K32  Tol: 1%  Text1: 0603  (hidden comment: 3K32_R0603_1%)
Resistor Chip SMD; Manufacturer: Various; Part Number: 3K32 0603 1%; Watt: 100mW; Package: RESC0603X60N; EDM-PN: *; Text2: *; Reutech PN: *; SAAB PN: *; DCE Part No: *
footprint RESC0603X60N (Chip Resistor, 0603, 2-Leads, Body 1.6x0.8mm, IPC Medium Density)
pins: 1, 2

## 3K32_0805
designator R?, comment value 3K32  Tol: 1%  Text1: 0805  (hidden comment: 3K32_R0805_1%)
Resistor Chip SMD; Manufacturer: Various; Part Number: 3K32 0805 1%; Watt: 125mW; Package: RESC0805X65N; EDM-PN: *; Text2: *; Reutech PN: *; SAAB PN: *; DCE Part No: *
footprint RESC0805X65N (Chip Resistor, 0805, 2-Leads, Body 2.0x1.3mm, IPC Medium Density)
pins: 1, 2

## 3K32_1206
designator R?, comment value 3K32  Tol: 1%  Text1: 1206  (hidden comment: 3K32_R1206_1%)
Resistor Chip SMD; Manufacturer: Various; Part Number: 3K32 1206 1%; Watt: 250mW; Package: RESC1206X71N; EDM-PN: *; Text2: *; Reutech PN: *; SAAB PN: *; DCE Part No: *
footprint RESC1206X71N (Chip Resistor, 1206, 2-Leads, Body 3.2x1.6mm, IPC Medium Density)
pins: 1, 2

## 3K48_0201
designator R?, comment value 3K48  Tol: 1%  Text1: 0201  (hidden comment: 3K48_R0201_1%)
Resistor Chip SMD; Manufacturer: Various; Part Number: 3K48 0201 1%; Watt: 31mW; Package: RESC0201X33N; EDM-PN: *; Text2: *; Reutech PN: *; SAAB PN: *; DCE Part No: *
footprint RESC0201X33N (Chip Resistor, 0201, 2-Leads, Body 0.6x0.3mm, IPC Medium Density)
pins: 1, 2

## 3K48_0402
designator R?, comment value 3K48  Tol: 1%  Text1: 0402  (hidden comment: 3K48_R0402_1%)
Resistor Chip SMD; Manufacturer: Various; Part Number: 3K48 0402 1%; Watt: 63mW; EDM-PN: RES1578; Package: RESC0402X40N; Text2: *; Reutech PN: *; SAAB PN: *; DCE Part No: *
footprint RESC0402X40N (Chip Resistor, 0402, 2-Leads, Body 1.1x0.5mm, IPC Medium Density)
pins: 1, 2

## 3K48_0603
designator R?, comment value 3K48  Tol: 1%  Text1: 0603  (hidden comment: 3K48_R0603_1%)
Resistor Chip SMD; Manufacturer: Various; Part Number: 3K48 0603 1%; Watt: 100mW; EDM-PN: RES900; Package: RESC0603X60N; Text2: *; Reutech PN: *; SAAB PN: *; DCE Part No: *
footprint RESC0603X60N (Chip Resistor, 0603, 2-Leads, Body 1.6x0.8mm, IPC Medium Density)
pins: 1, 2

## 3K48_0805
designator R?, comment value 3K48  Tol: 1%  Text1: 0805  (hidden comment: 3K48_R0805_1%)
Resistor Chip SMD; Manufacturer: Various; Part Number: 3K48 0805 1%; Watt: 125mW; Package: RESC0805X65N; EDM-PN: *; Text2: *; Reutech PN: *; SAAB PN: *; DCE Part No: *
footprint RESC0805X65N (Chip Resistor, 0805, 2-Leads, Body 2.0x1.3mm, IPC Medium Density)
pins: 1, 2

## 3K48_1206
designator R?, comment value 3K48  Tol: 1%  Text1: 1206  (hidden comment: 3K48_R1206_1%)
Resistor Chip SMD; Manufacturer: Various; Part Number: 3K48 1206 1%; Watt: 250mW; Package: RESC1206X71N; EDM-PN: *; Text2: *; Reutech PN: *; SAAB PN: *; DCE Part No: *
footprint RESC1206X71N (Chip Resistor, 1206, 2-Leads, Body 3.2x1.6mm, IPC Medium Density)
pins: 1, 2

## 3K65_0402
designator R?, comment value 3K65  Tol: 1%  Text1: 0402  (hidden comment: 3K65_R0402_1%)
Resistor Chip SMD; Manufacturer: Various; Part Number: 3K65 0402 1%; Watt: 63mW; Package: RESC0402X40N; EDM-PN: *; Text2: *; Reutech PN: *; SAAB PN: *; DCE Part No: *
footprint RESC0402X40N (Chip Resistor, 0402, 2-Leads, Body 1.1x0.5mm, IPC Medium Density)
pins: 1, 2

## 3K65_0603
designator R?, comment value 3K65  Tol: 1%  Text1: 0603  (hidden comment: 3K65_R0603_1%)
Resistor Chip SMD; Manufacturer: Various; Part Number: 3K65 0603 1%; Watt: 100mW; Package: RESC0603X60N; EDM-PN: *; Text2: *; Reutech PN: *; SAAB PN: *; DCE Part No: *
footprint RESC0603X60N (Chip Resistor, 0603, 2-Leads, Body 1.6x0.8mm, IPC Medium Density)
pins: 1, 2

## 3K65_0805
designator R?, comment value 3K65  Tol: 1%  Text1: 0805  (hidden comment: 3K65_R0805_1%)
Resistor Chip SMD; Manufacturer: Various; Part Number: 3K65 0805 1%; Watt: 125mW; Package: RESC0805X65N; EDM-PN: *; Text2: *; Reutech PN: *; SAAB PN: *; DCE Part No: *
footprint RESC0805X65N (Chip Resistor, 0805, 2-Leads, Body 2.0x1.3mm, IPC Medium Density)
pins: 1, 2

## 3K65_1206
designator R?, comment value 3K65  Tol: 1%  Text1: 1206  (hidden comment: 3K65_R1206_1%)
Resistor Chip SMD; Manufacturer: Various; Part Number: 3K65 1206 1%; Watt: 250mW; Package: RESC1206X71N; EDM-PN: *; Text2: *; Reutech PN: *; SAAB PN: *; DCE Part No: *
footprint RESC1206X71N (Chip Resistor, 1206, 2-Leads, Body 3.2x1.6mm, IPC Medium Density)
pins: 1, 2

## 3K74_0201
designator R?, comment value 3K74  Tol: 1%  Text1: 0201  (hidden comment: 3K74_R0201_1%)
Resistor Chip SMD; Manufacturer: Various; Part Number: 3K74 0201 1%; Watt: 31mW; Package: RESC0201X33N; EDM-PN: *; Text2: *; Reutech PN: *; SAAB PN: *; DCE Part No: *
footprint RESC0201X33N (Chip Resistor, 0201, 2-Leads, Body 0.6x0.3mm, IPC Medium Density)
pins: 1, 2

## 3K74_0402
designator R?, comment value 3K74  Tol: 1%  Text1: 0402  (hidden comment: 3K74_R0402_1%)
Resistor Chip SMD; Manufacturer: Various; Part Number: 3K74 0402 1%; Watt: 63mW; Package: RESC0402X40N; EDM-PN: *; Text2: *; Reutech PN: *; SAAB PN: *; DCE Part No: *
footprint RESC0402X40N (Chip Resistor, 0402, 2-Leads, Body 1.1x0.5mm, IPC Medium Density)
pins: 1, 2

## 3K74_0603
designator R?, comment value 3K74  Tol: 1%  Text1: 0603  (hidden comment: 3K74_R0603_1%)
Resistor Chip SMD; Manufacturer: Various; Part Number: 3K74 0603 1%; Watt: 100mW; Package: RESC0603X60N; EDM-PN: *; Text2: *; Reutech PN: *; SAAB PN: *; DCE Part No: *
footprint RESC0603X60N (Chip Resistor, 0603, 2-Leads, Body 1.6x0.8mm, IPC Medium Density)
pins: 1, 2

## 3K74_0805
designator R?, comment value 3K74  Tol: 1%  Text1: 0805  (hidden comment: 3K74_R0805_1%)
Resistor Chip SMD; Manufacturer: Various; Part Number: 3K74 0805 1%; Watt: 125mW; Package: RESC0805X65N; EDM-PN: *; Text2: *; Reutech PN: *; SAAB PN: *; DCE Part No: *
footprint RESC0805X65N (Chip Resistor, 0805, 2-Leads, Body 2.0x1.3mm, IPC Medium Density)
pins: 1, 2

## 3K74_1206
designator R?, comment value 3K74  Tol: 1%  Text1: 1206  (hidden comment: 3K74_R1206_1%)
Resistor Chip SMD; Manufacturer: Various; Part Number: 3K74 1206 1%; Watt: 250mW; Package: RESC1206X71N; EDM-PN: *; Text2: *; Reutech PN: *; SAAB PN: *; DCE Part No: *
footprint RESC1206X71N (Chip Resistor, 1206, 2-Leads, Body 3.2x1.6mm, IPC Medium Density)
pins: 1, 2

## 3K92_0201
designator R?, comment value 3K92  Tol: 1%  Text1: 0201  (hidden comment: 3K92_R0201_1%)
Resistor Chip SMD; Manufacturer: Various; Part Number: 3K92 0201 1%; Watt: 31mW; Package: RESC0201X33N; EDM-PN: *; Text2: *; Reutech PN: *; SAAB PN: *; DCE Part No: *
footprint RESC0201X33N (Chip Resistor, 0201, 2-Leads, Body 0.6x0.3mm, IPC Medium Density)
pins: 1, 2

## 3K92_0402
designator R?, comment value 3K92  Tol: 1%  Text1: 0402  (hidden comment: 3K92_R0402_1%)
Resistor Chip SMD; Manufacturer: Various; Part Number: 3K92 0402 1%; Watt: 63mW; Package: RESC0402X40N; EDM-PN: *; Text2: *; Reutech PN: *; SAAB PN: *; DCE Part No: *
footprint RESC0402X40N (Chip Resistor, 0402, 2-Leads, Body 1.1x0.5mm, IPC Medium Density)
pins: 1, 2

## 3K92_0603
designator R?, comment value 3K92  Tol: 1%  Text1: 0603  (hidden comment: 3K92_R0603_1%)
Resistor Chip SMD; Manufacturer: Various; Part Number: 3K92 0603 1%; Watt: 100mW; Package: RESC0603X60N; EDM-PN: *; Text2: *; Reutech PN: *; SAAB PN: *; DCE Part No: *
footprint RESC0603X60N (Chip Resistor, 0603, 2-Leads, Body 1.6x0.8mm, IPC Medium Density)
pins: 1, 2

## 3K92_0805
designator R?, comment value 3K92  Tol: 1%  Text1: 0805  (hidden comment: 3K92_R0805_1%)
Resistor Chip SMD; Manufacturer: Various; Part Number: 3K92 0805 1%; Watt: 125mW; Package: RESC0805X65N; EDM-PN: *; Text2: *; Reutech PN: *; SAAB PN: *; DCE Part No: *
footprint RESC0805X65N (Chip Resistor, 0805, 2-Leads, Body 2.0x1.3mm, IPC Medium Density)
pins: 1, 2

## 3K92_1206
designator R?, comment value 3K92  Tol: 1%  Text1: 1206  (hidden comment: 3K92_R1206_1%)
Resistor Chip SMD; Manufacturer: Various; Part Number: 3K92 1206 1%; Watt: 250mW; Package: RESC1206X71N; EDM-PN: *; Text2: *; Reutech PN: *; SAAB PN: *; DCE Part No: *
footprint RESC1206X71N (Chip Resistor, 1206, 2-Leads, Body 3.2x1.6mm, IPC Medium Density)
pins: 1, 2

## 3K_0402
designator R?, comment value 3K  Tol: 1%  Text1: 0402  (hidden comment: 3K_R0402_1%)
Resistor Chip SMD; Manufacturer: Various; Part Number: 3K 0402 1%; Watt: 63mW; EDM-PN: RES1497; Package: RESC0402X40N; Text2: *; Reutech PN: *; SAAB PN: *; DCE Part No: *
footprint RESC0402X40N (Chip Resistor, 0402, 2-Leads, Body 1.1x0.5mm, IPC Medium Density)
pins: 1, 2

## 3K_0402L
designator R?, comment value 3K  Tol: 1%  Text1: 0402  (hidden comment: 3K_R0402_1%)
Resistor Chip SMD; Manufacturer: Various; Part Number: 3K 0402 1%; Watt: 63mW; EDM-PN: RES1497; Package: RESC0402X40L; Text2: *; Reutech PN: *; SAAB PN: *; DCE Part No: *
footprint RESC0402X40L (Chip Resistor, 0402, 2-Leads, Body 1.1x0.5mm, IPC High Density)
pins: 1, 2

## 3K_0603
designator R?, comment value 3K  Tol: 1%  Text1: 0603  (hidden comment: 3K_R0603_1%)
Resistor Chip SMD; Manufacturer: Various; Part Number: 3K 0603 1%; Watt: 100mW; Package: RESC0603X60N; EDM-PN: *; Text2: *; Reutech PN: 5905-93-3001; SAAB PN: *; DCE Part No: *
footprint RESC0603X60N (Chip Resistor, 0603, 2-Leads, Body 1.6x0.8mm, IPC Medium Density)
pins: 1, 2

## 3K_0805
designator R?, comment value 3K  Tol: 1%  Text1: 0805  (hidden comment: 3K_R0805_1%)
Resistor Chip SMD; Manufacturer: Various; Part Number: 3K 0805 1%; Watt: 125mW; Package: RESC0805X65N; EDM-PN: *; Text2: *; Reutech PN: *; SAAB PN: *; DCE Part No: *
footprint RESC0805X65N (Chip Resistor, 0805, 2-Leads, Body 2.0x1.3mm, IPC Medium Density)
pins: 1, 2

## 3K_1206
designator R?, comment value 3K  Tol: 1%  Text1: 1206  (hidden comment: 3K_R1206_1%)
Resistor Chip SMD; Manufacturer: Various; Part Number: 3K 1206 1%; Watt: 250mW; Package: RESC1206X71N; EDM-PN: *; Text2: *; Reutech PN: *; SAAB PN: *; DCE Part No: *
footprint RESC1206X71N (Chip Resistor, 1206, 2-Leads, Body 3.2x1.6mm, IPC Medium Density)
pins: 1, 2

## 3M3_0402
designator R?, comment value 3M3  Tol: 1%  Text1: 0402  (hidden comment: 3M3_R0402_1%)
Resistor Chip SMD; Manufacturer: Various; Part Number: 3M3 0402 1%; Watt: 63mW; Package: RESC0402X40N; EDM-PN: *; Text2: *; Reutech PN: *; SAAB PN: *; DCE Part No: *
footprint RESC0402X40N (Chip Resistor, 0402, 2-Leads, Body 1.1x0.5mm, IPC Medium Density)
pins: 1, 2

## 3M3_0603
designator R?, comment value 3M3  Tol: 1%  Text1: 0603  (hidden comment: 3M3_R0603_1%)
Resistor Chip SMD; Manufacturer: Various; Part Number: 3M3 0603 1%; Watt: 100mW; Package: RESC0603X60N; EDM-PN: *; Text2: *; Reutech PN: *; SAAB PN: *; DCE Part No: *
footprint RESC0603X60N (Chip Resistor, 0603, 2-Leads, Body 1.6x0.8mm, IPC Medium Density)
pins: 1, 2

## 3M3_0805
designator R?, comment value 3M3  Tol: 1%  Text1: 0805  (hidden comment: 3M3_R0805_1%)
Resistor Chip SMD; Manufacturer: Various; Part Number: 3M3 0805 1%; Watt: 125mW; Package: RESC0805X65N; EDM-PN: *; Text2: *; Reutech PN: *; SAAB PN: *; DCE Part No: *
footprint RESC0805X65N (Chip Resistor, 0805, 2-Leads, Body 2.0x1.3mm, IPC Medium Density)
pins: 1, 2

## 3M3_1206
designator R?, comment value 3M3  Tol: 1%  Text1: 1206  (hidden comment: 3M3_R1206_1%)
Resistor Chip SMD; Manufacturer: Various; Part Number: 3M3 1206 1%; Watt: 250mW; Package: RESC1206X71N; EDM-PN: *; Text2: *; Reutech PN: *; SAAB PN: *; DCE Part No: *
footprint RESC1206X71N (Chip Resistor, 1206, 2-Leads, Body 3.2x1.6mm, IPC Medium Density)
pins: 1, 2

## 3M48_0402
designator R?, comment value 3M48  Tol: 1%  Text1: 0402  (hidden comment: 3M48_R0402_1%)
Resistor Chip SMD; Manufacturer: Various; Part Number: 3M48 0402 1%; Watt: 63mW; Package: RESC0402X40N; EDM-PN: *; Text2: *; Reutech PN: *; SAAB PN: *; DCE Part No: *
footprint RESC0402X40N (Chip Resistor, 0402, 2-Leads, Body 1.1x0.5mm, IPC Medium Density)
pins: 1, 2

## 3M48_0603
designator R?, comment value 3M48  Tol: 1%  Text1: 0603  (hidden comment: 3M48_R0603_1%)
Resistor Chip SMD; Manufacturer: Various; Part Number: 3M48 0603 1%; Watt: 100mW; Package: RESC0603X60N; EDM-PN: *; Text2: *; Reutech PN: *; SAAB PN: *; DCE Part No: *
footprint RESC0603X60N (Chip Resistor, 0603, 2-Leads, Body 1.6x0.8mm, IPC Medium Density)
pins: 1, 2

## 3M48_0805
designator R?, comment value 3M48  Tol: 1%  Text1: 0805  (hidden comment: 3M48_R0805_1%)
Resistor Chip SMD; Manufacturer: Various; Part Number: 3M48 0805 1%; Watt: 125mW; Package: RESC0805X65N; EDM-PN: *; Text2: *; Reutech PN: *; SAAB PN: *; DCE Part No: *
footprint RESC0805X65N (Chip Resistor, 0805, 2-Leads, Body 2.0x1.3mm, IPC Medium Density)
pins: 1, 2

## 3M48_1206
designator R?, comment value 3M48  Tol: 1%  Text1: 1206  (hidden comment: 3M48_R1206_1%)
Resistor Chip SMD; Manufacturer: Various; Part Number: 3M48 1206 1%; Watt: 250mW; Package: RESC1206X71N; EDM-PN: *; Text2: *; Reutech PN: *; SAAB PN: *; DCE Part No: *
footprint RESC1206X71N (Chip Resistor, 1206, 2-Leads, Body 3.2x1.6mm, IPC Medium Density)
pins: 1, 2

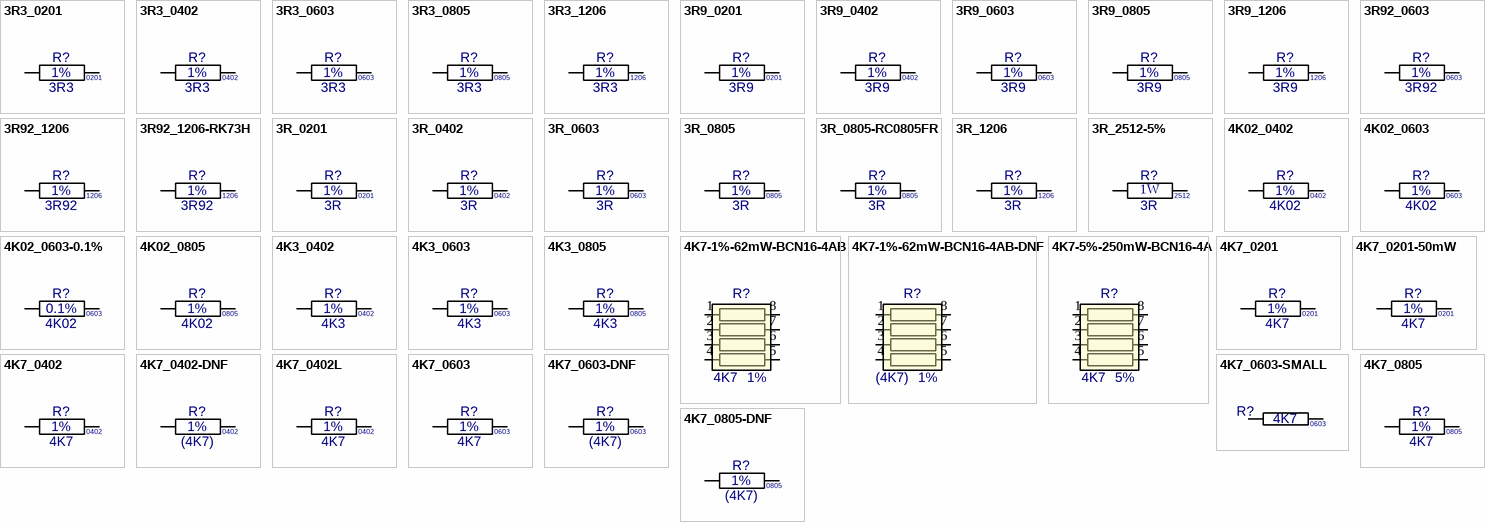
[diagram p13: symbols 3R3_0201 to 4K7_0805-DNF]

## 3R3_0201
designator R?, comment value 3R3  Tol: 1%  Text1: 0201  (hidden comment: 3R3_R0201_1%)
Resistor Chip SMD; Manufacturer: Various; Part Number: 3R3 0201 1%; Watt: 31mW; Package: RESC0201X33N; EDM-PN: *; Text2: *; Reutech PN: *; SAAB PN: *; DCE Part No: *
footprint RESC0201X33N (Chip Resistor, 0201, 2-Leads, Body 0.6x0.3mm, IPC Medium Density)
pins: 1, 2

## 3R3_0402
designator R?, comment value 3R3  Tol: 1%  Text1: 0402  (hidden comment: 3R3_R0402_1%)
Resistor Chip SMD; Manufacturer: Various; Part Number: 3R3 0402 1%; Watt: 63mW; Package: RESC0402X40N; EDM-PN: *; Text2: *; Reutech PN: *; SAAB PN: *; DCE Part No: *
footprint RESC0402X40N (Chip Resistor, 0402, 2-Leads, Body 1.1x0.5mm, IPC Medium Density)
pins: 1, 2

## 3R3_0603
designator R?, comment value 3R3  Tol: 1%  Text1: 0603  (hidden comment: 3R3_R0603_1%)
Resistor Chip SMD; Manufacturer: Various; Part Number: 3R3 0603 1%; Watt: 100mW; Package: RESC0603X60N; EDM-PN: *; Text2: *; Reutech PN: *; SAAB PN: *; DCE Part No: *
footprint RESC0603X60N (Chip Resistor, 0603, 2-Leads, Body 1.6x0.8mm, IPC Medium Density)
pins: 1, 2

## 3R3_0805
designator R?, comment value 3R3  Tol: 1%  Text1: 0805  (hidden comment: 3R3_R0805_1%)
Resistor Chip SMD; Manufacturer: Various; Part Number: 3R3 0805 1%; Watt: 125mW; Package: RESC0805X65N; EDM-PN: *; Text2: *; Reutech PN: *; SAAB PN: *; DCE Part No: *
footprint RESC0805X65N (Chip Resistor, 0805, 2-Leads, Body 2.0x1.3mm, IPC Medium Density)
pins: 1, 2

## 3R3_1206
designator R?, comment value 3R3  Tol: 1%  Text1: 1206  (hidden comment: 3R3_R1206_1%)
Resistor Chip SMD; Manufacturer: Various; Part Number: 3R3 1206 1%; Watt: 250mW; Reutech PN: 5905-CR-8033; Package: RESC1206X71N; EDM-PN: *; Text2: *; SAAB PN: *; DCE Part No: *
footprint RESC1206X71N (Chip Resistor, 1206, 2-Leads, Body 3.2x1.6mm, IPC Medium Density)
pins: 1, 2

## 3R9_0201
designator R?, comment value 3R9  Tol: 1%  Text1: 0201  (hidden comment: 3R9_R0201_1%)
Resistor Chip SMD; Manufacturer: Various; Part Number: 3R9 0201 1%; Watt: 31mW; Package: RESC0201X33N; EDM-PN: *; Text2: *; Reutech PN: *; SAAB PN: *; DCE Part No: *
footprint RESC0201X33N (Chip Resistor, 0201, 2-Leads, Body 0.6x0.3mm, IPC Medium Density)
pins: 1, 2

## 3R9_0402
designator R?, comment value 3R9  Tol: 1%  Text1: 0402  (hidden comment: 3R9_R0402_1%)
Resistor Chip SMD; Manufacturer: Various; Part Number: 3R9 0402 1%; Watt: 63mW; Package: RESC0402X40N; EDM-PN: *; Text2: *; Reutech PN: *; SAAB PN: *; DCE Part No: *
footprint RESC0402X40N (Chip Resistor, 0402, 2-Leads, Body 1.1x0.5mm, IPC Medium Density)
pins: 1, 2

## 3R9_0603
designator R?, comment value 3R9  Tol: 1%  Text1: 0603  (hidden comment: 3R9_R0603_1%)
Resistor Chip SMD; Manufacturer: Various; Part Number: 3R9 0603 1%; Watt: 100mW; Package: RESC0603X60N; EDM-PN: *; Text2: *; Reutech PN: *; SAAB PN: *; DCE Part No: *
footprint RESC0603X60N (Chip Resistor, 0603, 2-Leads, Body 1.6x0.8mm, IPC Medium Density)
pins: 1, 2

## 3R9_0805
designator R?, comment value 3R9  Tol: 1%  Text1: 0805  (hidden comment: 3R9_R0805_1%)
Resistor Chip SMD; Manufacturer: Various; Part Number: 3R9 0805 1%; Watt: 125mW; Package: RESC0805X65N; EDM-PN: *; Text2: *; Reutech PN: *; SAAB PN: *; DCE Part No: *
footprint RESC0805X65N (Chip Resistor, 0805, 2-Leads, Body 2.0x1.3mm, IPC Medium Density)
pins: 1, 2

## 3R9_1206
designator R?, comment value 3R9  Tol: 1%  Text1: 1206  (hidden comment: 3R9_R1206_1%)
Resistor Chip SMD; Manufacturer: Various; Part Number: 3R9 1206 1%; Watt: 250mW; Package: RESC1206X71N; EDM-PN: *; Text2: *; Reutech PN: *; SAAB PN: *; DCE Part No: *
footprint RESC1206X71N (Chip Resistor, 1206, 2-Leads, Body 3.2x1.6mm, IPC Medium Density)
pins: 1, 2

## 3R92_0603
designator R?, comment value 3R92  Tol: 1%  Text1: 0603  (hidden comment: 3R92_R0603_1%)
Resistor Chip SMD; Manufacturer: Various; Part Number: 3R92 0603 1%; Watt: 100mW; Package: RESC0603X60N; EDM-PN: *; Text2: *; Reutech PN: *; SAAB PN: *; DCE Part No: *
footprint RESC0603X60N (Chip Resistor, 0603, 2-Leads, Body 1.6x0.8mm, IPC Medium Density)
pins: 1, 2

## 3R92_1206
designator R?, comment value 3R92  Tol: 1%  Text1: 1206  (hidden comment: 3R92_R1206_1%)
Resistor Chip SMD; Manufacturer: Various; Part Number: 3R92 1206 1%; Watt: 250mW; Package: RESC1206X71N; EDM-PN: *; Text2: *; Reutech PN: *; SAAB PN: *; DCE Part No: *
footprint RESC1206X71N (Chip Resistor, 1206, 2-Leads, Body 3.2x1.6mm, IPC Medium Density)
pins: 1, 2

## 3R92_1206-RK73H
designator R?, comment value 3R92  Tol: 1%  Text1: 1206  (hidden comment: RK73H2BTTD3R92F)
Resistor Chip Moisture Resistant Thick Film; Manufacturer: KOA; Watt: 250mW; Part Number: RK73H2BTTD3R92F; Package: RESC1206X71N; EDM-PN: *; Text2: *; Reutech PN: *; SAAB PN: *; DCE Part No: *
footprint RESC1206X71N (Chip Resistor, 1206, 2-Leads, Body 3.2x1.6mm, IPC Medium Density)
pins: 1, 2

## 3R_0201
designator R?, comment value 3R  Tol: 1%  Text1: 0201  (hidden comment: 3R_R0201_1%)
Resistor Chip SMD; Manufacturer: Various; Part Number: 3R 0201 1%; Watt: 31mW; Package: RESC0201X33N; EDM-PN: *; Text2: *; Reutech PN: *; SAAB PN: *; DCE Part No: *
footprint RESC0201X33N (Chip Resistor, 0201, 2-Leads, Body 0.6x0.3mm, IPC Medium Density)
pins: 1, 2

## 3R_0402
designator R?, comment value 3R  Tol: 1%  Text1: 0402  (hidden comment: 3R_R0402_1%)
Resistor Chip SMD; Manufacturer: Various; Part Number: 3R 0402 1%; Watt: 63mW; Package: RESC0402X40N; EDM-PN: *; Text2: *; Reutech PN: *; SAAB PN: *; DCE Part No: *
footprint RESC0402X40N (Chip Resistor, 0402, 2-Leads, Body 1.1x0.5mm, IPC Medium Density)
pins: 1, 2